# Altium schematic symbol library EFM8BB21F16A-C-QFN20.SchLib: 1 symbol
Pins are listed as number, name and electrical type; pins without a type are passive.

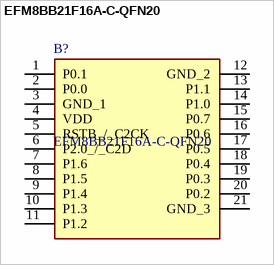
[diagram p0: symbol EFM8BB21F16A-C-QFN20]

## EFM8BB21F16A-C-QFN20
designator B?
IC MCU 8BIT 16KB FLASH 20QFN; Manufacturer_Name: Silicon Labs; Geometry.Height: 0.8mm; Manufacturer_Part_Number: EFM8BB21F16A-C-QFN20; Mouser Part Number: 634-EFM8BB21F16FN20; Mouser Price/Stock: https://www.mouser.co.uk/ProductDetail/Silicon-Labs/EFM8BB21F16A-C-QFN20?qs=8HqIXBaaO6yFJdjkDKkkeA%3D%3D; Arrow Part Number: *; Arrow Price/Stock: *; Datasheet Link: https://componentsearchengine.com/Datasheets/2/EFM8BB21F16A-C-QFN20.pdf
footprint EFM8BB21F16ACQFN20
pins: 1 P0.1, 2 P0.0, 3 GND_1, 4 VDD, 5 RSTB_/_C2CK, 6 P2.0_/_C2D, 7 P1.6, 8 P1.5, 9 P1.4, 10 P1.3, 11 P1.2, 12 GND_2, 13 P1.1, 14 P1.0, 15 P0.7, 16 P0.6, 17 P0.5, 18 P0.4, 19 P0.3, 20 P0.2, 21 GND_3